# Altium footprint library NEW_PCB_2021-12-20.PcbLib: 1 footprints
Each footprint in its own frame and in the unit in brackets; x right, y up, seen from the top. Pads: shape width x height; smd on the part's side, far side on the other; paste and mask are expansions set on the pad; w line width, h text height; cw(c..) or ccw(c..) is an arc to the next point about the centre after c.
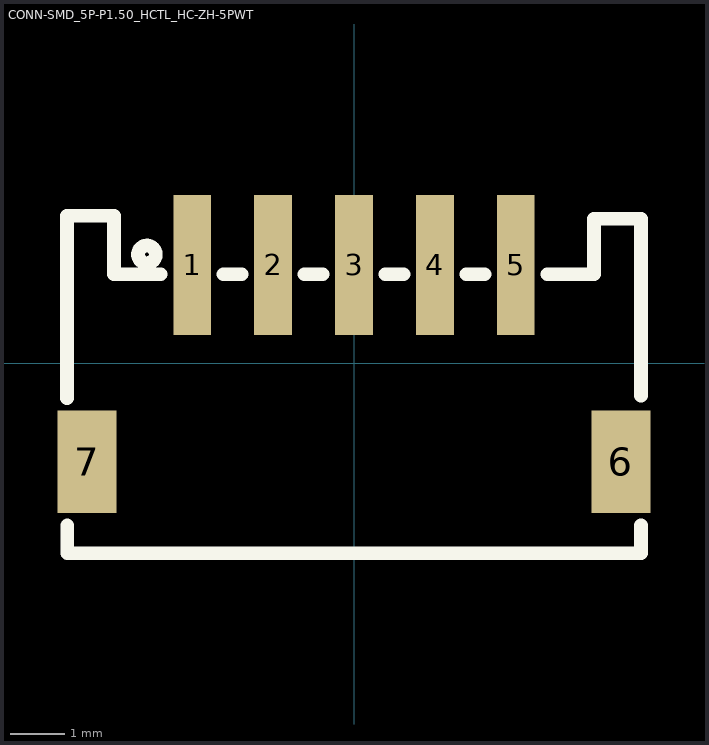
[diagram p0: the footprint, top view; thin cyan lines are the x and y axes]

## CONN-SMD_5P-P1.50_HCTL_HC-ZH-5PWT [mm]
pads (7):
  rect 0.7x2.6 smd: 1(-3,1.825) 2(-1.5,1.825) 3(0,1.825) 4(1.5,1.825) 5(3,1.825)
  rect 1.1x1.9 smd: 6(4.95,-1.825) 7(-4.95,-1.825)
Top Overlay:
  circle w0.254: c-3.84,2.02 r0.164
  lines w0.254: -5.32,-0.644 -5.32,2.74 -4.45,2.74 -4.45,1.65 -3.581,1.65 ; -5.319,-3.006 -5.319,-3.519 5.321,-3.519 5.321,-3.006 ; -2.419,1.651 -2.081,1.651 ; -0.919,1.651 -0.581,1.651 ; 0.581,1.651 0.919,1.651 ; 2.081,1.651 2.419,1.651 ; 3.581,1.651 4.45,1.651 4.45,2.68 5.32,2.68 5.32,-0.6